# Altium schematic symbol library HEADER_6.SchLib: 1 symbol
Pins are listed as number, name and electrical type; pins without a type are passive.

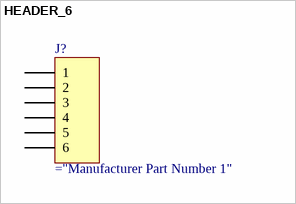
[diagram p0: symbol HEADER_6]

## HEADER_6
designator J?
Header, 6-Pin
pins: 1, 2, 3, 4, 5, 6